# Altium schematic symbol library F.SchLib: 1 symbol
Pins are listed as number, name and electrical type; pins without a type are passive.

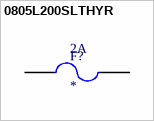
[diagram p0: symbol 0805L200SLTHYR]

## 0805L200SLTHYR
designator F?  value 2A
POLYFUSE 2A HOLD
footprint FUSE 0805 (Body 2.0 x 1.2 mm (LxW typ))
pins: 1, 2